# EAGLE library part TS30012 (library HbHandBoardMk2_V4)
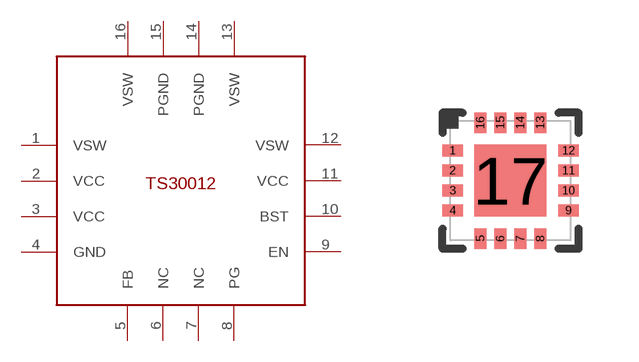
[diagram p0: symbol with the pads of VQFN16; footprint VQFN16]

Designator prefix -

## TS30012  [VQFN16]
1  VSW
2  VCC
3  VCC
4  GND
5  FB
6  NC  nc
7  NC  nc
8  PG
9  EN
10  BST
11  VCC
12  VSW
13  VSW
14  PGND
15  PGND
16  VSW

## Footprint VQFN16 (pad centres in mm)
VQFN16 body 3 x 3 x 0.85 mm
smd 0.52 x 0.3: 1 -1.45,0.75; 2 -1.45,0.25; 3 -1.45,-0.25; 4 -1.45,-0.75; 9 1.45,-0.75; 10 1.45,-0.25; 11 1.45,0.25; 12 1.45,0.75
smd 0.3 x 0.52: 5 -0.75,-1.45; 6 -0.25,-1.45; 7 0.25,-1.45; 8 0.75,-1.45; 13 0.75,1.45; 14 0.25,1.45; 15 -0.25,1.45; 16 -0.75,1.45
smd 1.8 x 1.8: 17 0,0